# EAGLE library part DAC8812 (library ICs)
Dual, Serial Input 16-Bit Multiplying Digital-to-Analog Converter
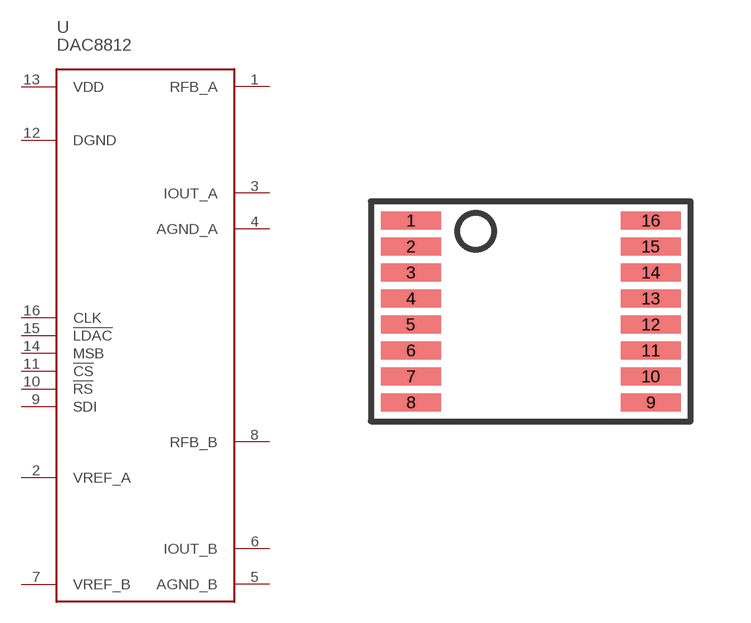
[diagram p55: symbol with the pads of TSSOP16; footprint TSSOP16]

Designator prefix U

## DAC8812ICPWG4 (FARNELL: 1390687; PRICE_PER: 15.58; VALUE: DAC8812)  [TSSOP16]
1  RFB_A
2  VREF_A
3  IOUT_A
4  AGND_A
5  AGND_B
6  IOUT_B
7  VREF_B
8  RFB_B
9  SDI
10  !RS
11  !CS
12  DGND
13  VDD
14  MSB
15  !LDAC
16  CLK

## Footprint TSSOP16 (pad centres in mm)
smd 1.5 x 0.45: 1 -3,2.275; 2 -3,1.625; 3 -3,0.975; 4 -3,0.325; 5 -3,-0.325; 6 -3,-0.975; 7 -3,-1.625; 8 -3,-2.275; 9 3,-2.275; 10 3,-1.625; 11 3,-0.975; 12 3,-0.325; 13 3,0.325; 14 3,0.975; 15 3,1.625; 16 3,2.275